# EAGLE library part CTS-74 (library Rover_bib)
Chip Resistor Arrays Series 74x Features Low Cost Thick Film Technology High Density Packaging Low Profile; can be used in PCMCIA cards Leadless Surface Mount Construction Concave or Convex Terminations Solder Coated Nickel Barrier Pads Isolated and Bussed Circuits Resistor Arrays Require Fewer Placements Than Discrete Components Tape and Reel Packaging RoHS Compliant in Accordance with EU Directive 2005/95/EC View All Features in Datasheet <http://www.ctscorp.com/components/Datasheets/CTSChipArrayDs.pdf> Details see: www.ctscorp.com Created A. Bachmaier, K&K Prime Engineering GmbH (c) 2011
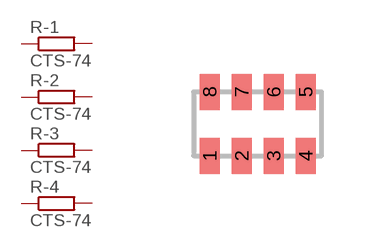
[diagram p4: symbol with the pads of CAPCAF80P160X320X70-8L; footprint CAPCAF80P160X320X70-8L]

Designator prefix R; gates -1=R-EU -2=R-EU -3=R-EU -4=R-EU

## CTS-74,2C083 (0_HOUSING: 1206; 0_MANUF: CTS; 1_DISTR: Digi-Key; 1_PN: 742C083103JPCT-ND)  [CAPCAF80P160X320X70-8L]
1  -1:1  pas
2  -2:1  pas
3  -3:1  pas
4  -4:1  pas
5  -4:2  pas
6  -3:2  pas
7  -2:2  pas
8  -1:2  pas

## Footprint CAPCAF80P160X320X70-8L (pad centres in mm)
Resistor array 742C083 (4 x 0603) CTS: Chip Resistor Arrays Series 74x IPC: CAPCAF80P160X320X70-8L Created: G. Klenner, 2010-03-31 (c) K&K Prime Engineering GmbH Modified: G. Klenner, 2012-09-20 (c) K&K Prime Engineering GmbH Modified A.Weiland, 2017-05-29 (c) K&K Prime Engineering GmbH
smd 0.5 x 0.9: 1 -1.2,-0.8; 2 -0.4,-0.8; 3 0.4,-0.8; 4 1.2,-0.8; 5 1.2,0.8; 6 0.4,0.8; 7 -0.4,0.8; 8 -1.2,0.8